# Altium schematic symbol library GNL-1206PGC.SchLib: 1 symbol
Pins are listed as number, name and electrical type; pins without a type are passive.

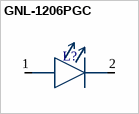
[diagram p0: symbol GNL-1206PGC]

## GNL-1206PGC
designator L?  (value not drawn)
1206 LED GNL-1206PGC
footprint GNL-1206PGC
pins: 1 DIN, 2 DOUT